# Altium schematic symbol library RF SoC.SchLib: 1 symbol
Pins are listed as number, name and electrical type; pins without a type are passive.

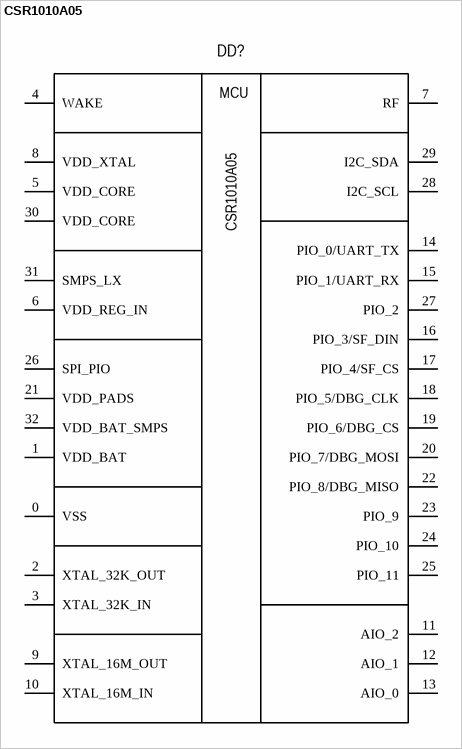
[diagram p0: symbol CSR1010A05]

## CSR1010A05
designator DD?
Bluetooth LE SoC; Manufacturer: CSR; Group: Embeded microcontroller; Package: UFQFPN-32; Part name: CSR1010A05
footprint UFQFPN-32
pins: 0 VSS, 1 VDD_BAT, 2 XTAL_32K_OUT, 3 XTAL_32K_IN, 4 WAKE, 5 VDD_CORE, 6 VDD_REG_IN, 7 RF, 8 VDD_XTAL, 9 XTAL_16M_OUT, 10 XTAL_16M_IN, 11 AIO_2, 12 AIO_1, 13 AIO_0, 14 PIO_0/UART_TX, 15 PIO_1/UART_RX, 16 PIO_3/SF_DIN, 17 PIO_4/SF_CS, 18 PIO_5/DBG_CLK, 19 PIO_6/DBG_CS, 20 PIO_7/DBG_MOSI, 21 VDD_PADS, 22 PIO_8/DBG_MISO, 23 PIO_9, 24 PIO_10, 25 PIO_11, 26 SPI_PIO, 27 PIO_2, 28 I2C_SCL, 29 I2C_SDA, 30 VDD_CORE, 31 SMPS_LX, 32 VDD_BAT_SMPS
text: MCU